# EAGLE library part AD1938WBSTZ-RL (library AD1938WBSTZ-RL)
General Purpose Audio Codec 4ADC / 8DAC Ch Automotive 48-Pin LQFP T/R Source: Datasheet <https://www.analog.com/media/en/technical-documentation/data-sheets/AD1938.pdf>
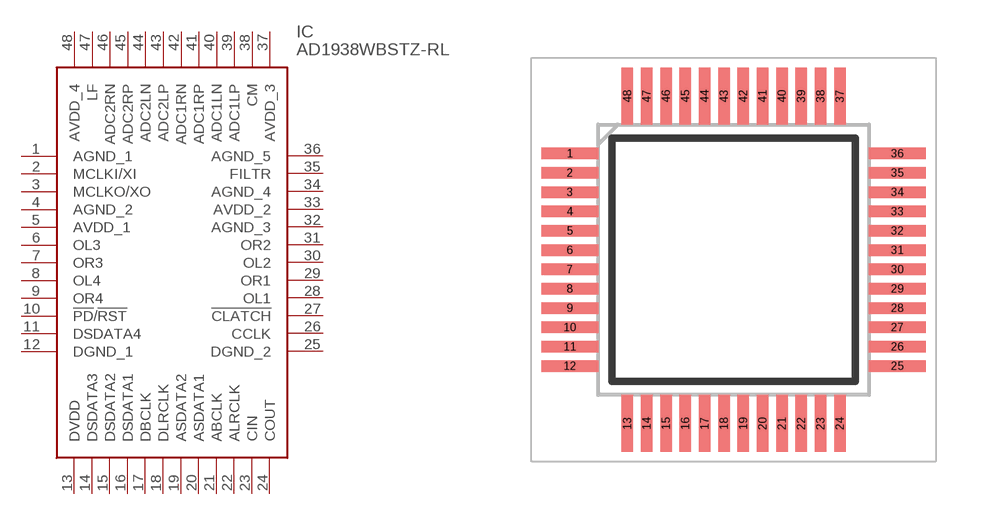
[diagram p0: symbol with the pads of QFP50P900X900X160-48N; footprint QFP50P900X900X160-48N]

Designator prefix IC

## AD1938WBSTZ-RL (Description: General Purpose Audio Codec 4ADC / 8DAC Ch Automotive 48-Pin LQFP T/R; Height: 1.6mm; Manufacturer_Name: Analog Devices; Manufacturer_Part_Number: AD1938WBSTZ-RL; Mouser_Part_Number: 584-AD1938WBSTZ-R; Mouser_Price-Stock: https://www.mouser.co.uk/ProductDetail/Analog-Devices/AD1938WBSTZ-RL?qs=NmRFExCfTkFYsyR3ryUD7w%3D%3D)  [QFP50P900X900X160-48N]
1  AGND_1
2  MCLKI/XI
3  MCLKO/XO
4  AGND_2
5  AVDD_1
6  OL3
7  OR3
8  OL4
9  OR4
10  !PD!/!RST
11  DSDATA4
12  DGND_1
13  DVDD
14  DSDATA3
15  DSDATA2
16  DSDATA1
17  DBCLK
18  DLRCLK
19  ASDATA2
20  ASDATA1
21  ABCLK
22  ALRCLK
23  CIN
24  COUT
25  DGND_2
26  CCLK
27  !CLATCH
28  OL1
29  OR1
30  OL2
31  OR2
32  AGND_3
33  AVDD_2
34  AGND_4
35  FILTR
36  AGND_5
37  AVDD_3
38  CM
39  ADC1LP
40  ADC1LN
41  ADC1RP
42  ADC1RN
43  ADC2LP
44  ADC2LN
45  ADC2RP
46  ADC2RN
47  LF
48  AVDD_4

## Footprint QFP50P900X900X160-48N (pad centres in mm)
ST-48 (LQFP)
smd 1.475 x 0.3: 1 -4.238,2.75; 2 -4.238,2.25; 3 -4.238,1.75; 4 -4.238,1.25; 5 -4.238,0.75; 6 -4.238,0.25; 7 -4.238,-0.25; 8 -4.238,-0.75; 9 -4.238,-1.25; 10 -4.238,-1.75; 11 -4.238,-2.25; 12 -4.238,-2.75; 25 4.238,-2.75; 26 4.238,-2.25; 27 4.238,-1.75; 28 4.238,-1.25; 29 4.238,-0.75; 30 4.238,-0.25; 31 4.238,0.25; 32 4.238,0.75; 33 4.238,1.25; 34 4.238,1.75; 35 4.238,2.25; 36 4.238,2.75
smd 0.3 x 1.475: 13 -2.75,-4.238; 14 -2.25,-4.238; 15 -1.75,-4.238; 16 -1.25,-4.238; 17 -0.75,-4.238; 18 -0.25,-4.238; 19 0.25,-4.238; 20 0.75,-4.238; 21 1.25,-4.238; 22 1.75,-4.238; 23 2.25,-4.238; 24 2.75,-4.238; 37 2.75,4.238; 38 2.25,4.238; 39 1.75,4.238; 40 1.25,4.238; 41 0.75,4.238; 42 0.25,4.238; 43 -0.25,4.238; 44 -0.75,4.238; 45 -1.25,4.238; 46 -1.75,4.238; 47 -2.25,4.238; 48 -2.75,4.238